# Altium schematic symbol library 1-84952-0 FPC.SchLib: 1 symbol
Pins are listed as number, name and electrical type; pins without a type are passive.

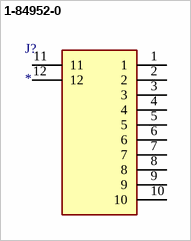
[diagram p0: symbol 1-84952-0]

## 1-84952-0
designator J?
Connector; Manufacturer_Name: TE Connectivity; Manufacturer_Part_Number: 1-84952-0; Description: 10 way r/a bottom FFC SMT connector,1mm; Datasheet Link: http://www.te.com/commerce/DocumentDelivery/DDEController?Action=showdoc&DocId=Customer+Drawing%7F84952%7FA4%7Fpdf%7FEnglish%7FENG_CD_84952_A4.pdf%7F1-84952-0; Height: 2mm; Mouser Part Number: 571-1-84952-0; Mouser Price/Stock: https://www.mouser.co.uk/ProductDetail/TE-Connectivity/1-84952-0?qs=uUkeXfjQ8uSn0XnxQY5ciw%3D%3D; Arrow Part Number: 1-84952-0; Arrow Price/Stock: https://www.arrow.com/en/products/1-84952-0/te-connectivity?region=nac
footprint 1849520
pins: 1, 2, 3, 4, 5, 6, 7, 8, 9, 10, 11, 12